# EAGLE library part *4047 (library digital)
xx4047: Monostable/astable multivibrator
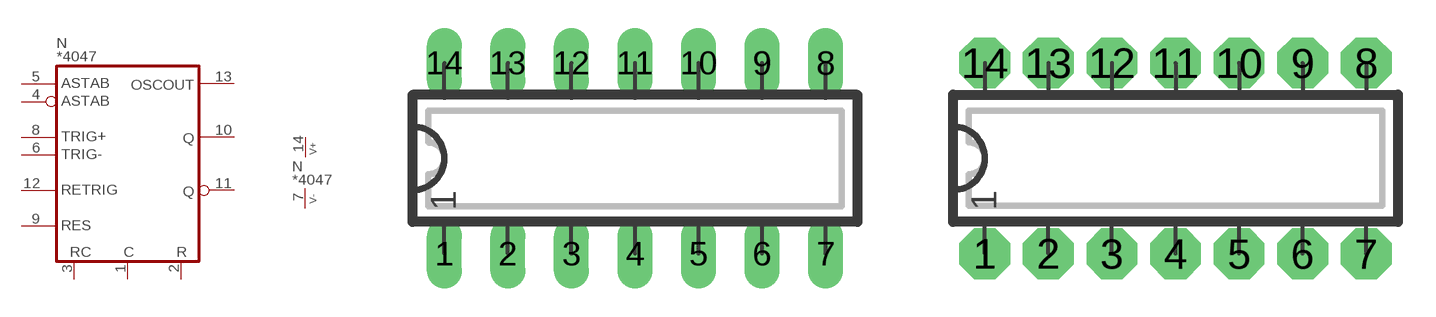
[diagram p55: symbol with the pads of DIP14L; footprints DIP14L, DIP14N]

Designator prefix N; gates  =4047 P=V+-

## 4047  [DIP14L]
1   :C  pas
2   :R  pas
3   :RC  pas
4   :/ASTAB  in
5   :ASTAB  in
6   :TRIG-  in
7  P:V-  pwr
8   :TRIG+  in
9   :RES  in
10   :Q  out
11   :/Q  out
12   :RETRIG  in
13   :OSCOUT  out
14  P:V+  pwr

## 4047L  [DIP14L]
Pads as for DIP14L

## 4047N  [DIP14N]
Pads as for DIP14L

## 4047R  [DIP14R]
Pads as for DIP14L

## 4047S  [SO14]
Pads as for DIP14L

## Footprint DIP14L (pad centres in mm)
DIP-14, long pads Standard IC package, 14 pins
drill 0.813 pad 1.397 long: 1 0,0; 2 2.54,0; 3 5.08,0; 4 7.62,0; 5 10.16,0; 6 12.7,0; 7 15.24,0; 8 15.24,7.62; 9 12.7,7.62; 10 10.16,7.62; 11 7.62,7.62; 12 5.08,7.62; 13 2.54,7.62; 14 0,7.62

## Footprint DIP14N (pad centres in mm)
DIP-14 Standard IC package, 14 pins
drill 0.813 pad 2.032 octagon: 1 0,0; 2 2.54,0; 3 5.08,0; 4 7.62,0; 5 10.16,0; 6 12.7,0; 7 15.24,0; 8 15.24,7.62; 9 12.7,7.62; 10 10.16,7.62; 11 7.62,7.62; 12 5.08,7.62; 13 2.54,7.62; 14 0,7.62

## Footprint DIP14R (pad centres in mm)
DIP-14, reduced pads Standard IC package, 14 pins
drill 0.813 pad 1.397 square: 1 0,0; 2 2.54,0; 3 5.08,0; 4 7.62,0; 5 10.16,0; 6 12.7,0; 7 15.24,0; 8 15.24,7.62; 9 12.7,7.62; 10 10.16,7.62; 11 7.62,7.62; 12 5.08,7.62; 13 2.54,7.62; 14 0,7.62

## Footprint SO14 (pad centres in mm)
SO-14, SMD SOIC IC package, 14 pins
smd 0.635 x 1.778: 1 -3.81,-2.857; 2 -2.54,-2.857; 3 -1.27,-2.857; 4 0,-2.857; 5 1.27,-2.857; 6 2.54,-2.857; 7 3.81,-2.857; 8 3.81,2.857; 9 2.54,2.857; 10 1.27,2.857; 11 0,2.857; 12 -1.27,2.857; 13 -2.54,2.857; 14 -3.81,2.857